# Altium footprint library Flight_Controller.PcbLib: 3 footprints
Each footprint in its own frame and in the unit in brackets; x right, y up, seen from the top. Pads: shape width x height; smd on the part's side, far side on the other; paste and mask are expansions set on the pad; w line width, h text height; cw(c..) or ccw(c..) is an arc to the next point about the centre after c.
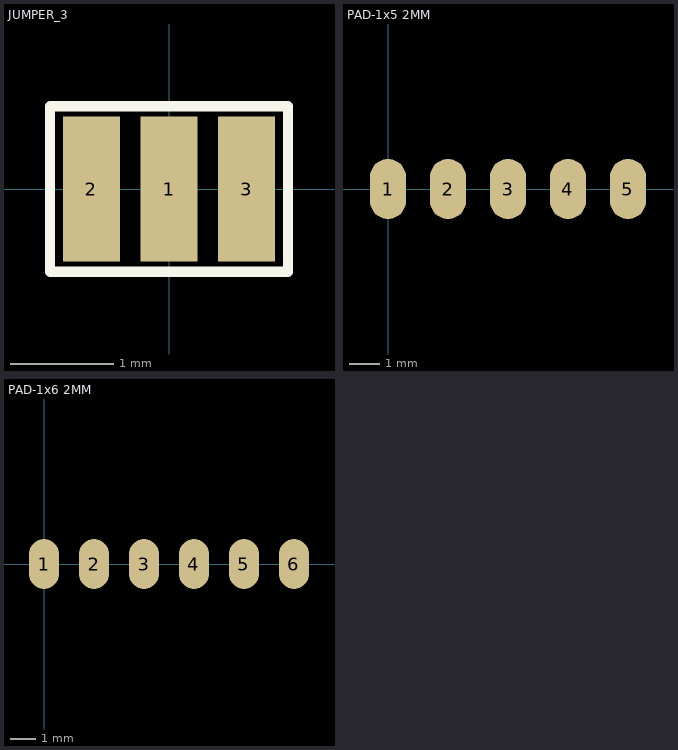
[diagram p0: the footprints below, top view; thin cyan lines are the x and y axes]

## JUMPER_3 [mm]
pads (3):
  rect 0.55x1.4 smd mask+0.05: 1(0,0) 2(-0.75,0) 3(0.75,0)
Top Overlay:
  lines w0.1: -1.15,-0.8 1.15,-0.8 1.15,0.8 -1.15,0.8 -1.15,-0.8

## PAD-1x5 2MM [mm]
pads (5):
  oval 1.2x2 smd: 1(0,0) 2(2,0) 3(4,0) 4(6,0) 5(8,0)

## PAD-1x6 2MM [mm]
pads (6):
  oval 1.2x2 smd: 1(0,0) 2(2,0) 3(4,0) 4(6,0) 5(8,0) 6(10,0)